# Altium footprint library HFBRX41X.PcbLib: 1 footprints
Each footprint in its own frame and in the unit in brackets; x right, y up, seen from the top. Pads: shape width x height; smd on the part's side, far side on the other; paste and mask are expansions set on the pad; w line width, h text height; cw(c..) or ccw(c..) is an arc to the next point about the centre after c.
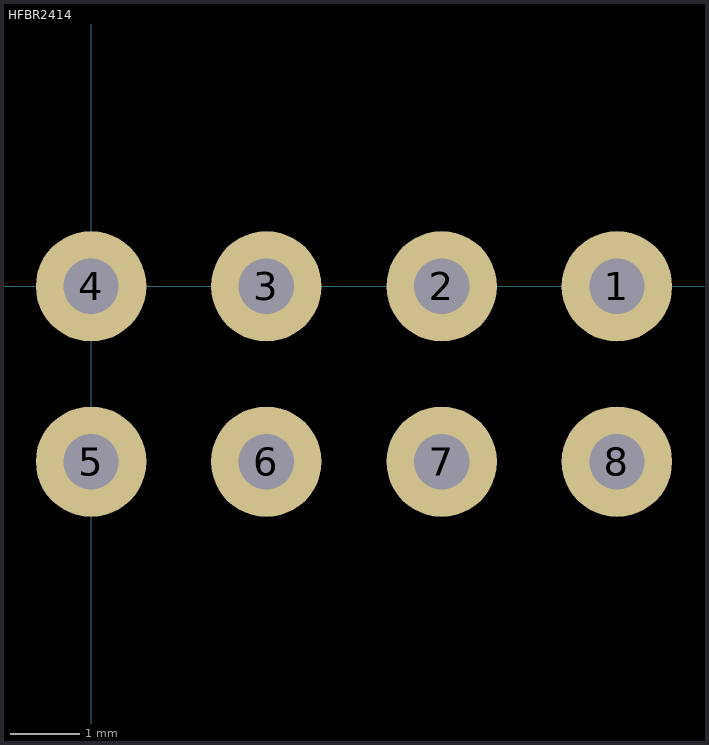
[diagram p0: the footprint, top view; thin cyan lines are the x and y axes]

## HFBR2414 [mm]
pads (8):
  round 1.6 hole 0.8: 1(7.62,0) 2(5.08,0) 3(2.54,0) 4(0,0) 5(0,-2.54) 6(2.54,-2.54) 7(5.08,-2.54) 8(7.62,-2.54)
3D body "User Library-HFBR-X41X.STEP": height 10.21, standoff -3.64, extent -2.54,-23.39 10.16,3.81